# EAGLE library part MSP432P4111IPZ (library Microcontroller)
IC MCU 32BIT 512KB FLASH 100LQFP Manufacturer's datasheet <http://www.ti.com/lit/ds/symlink/msp432p4111t.pdf>
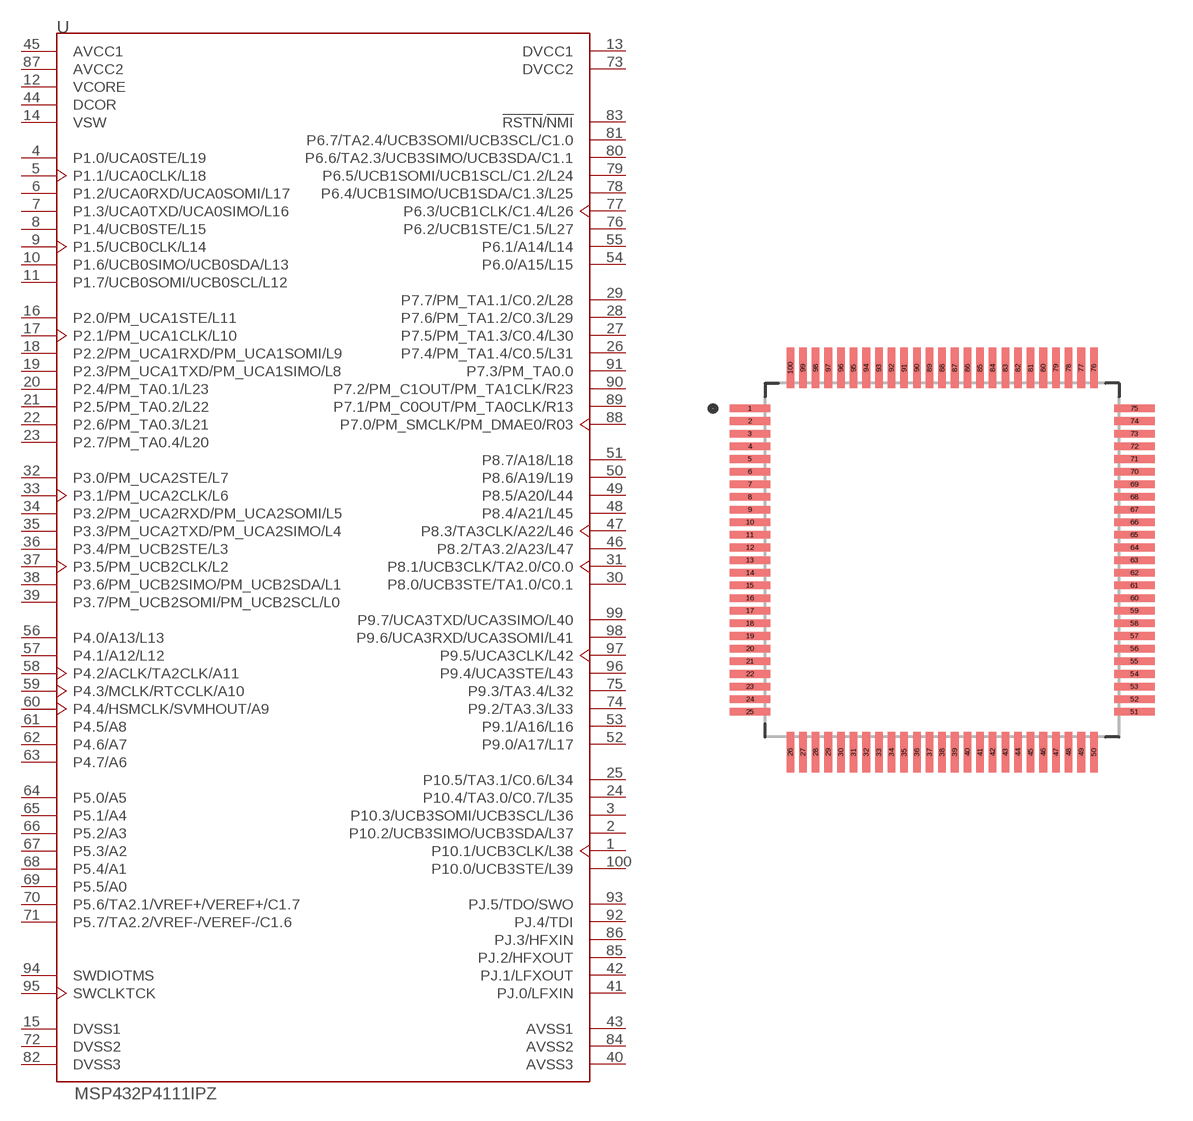
[diagram p10: symbol with the pads of LQFP100; footprint LQFP100]

Designator prefix U

## MSP432P4111IPZ (CREATED_BY: PCBLayout.com; DIGIKEY_PARTNO: 296-50599-ND; MANUFACTURER: Texas Instruments; MPN: MSP432P4111IPZ; PACKAGE: 100-LQFP)  [LQFP100]
1  P10.1/UCB3CLK/L38
2  P10.2/UCB3SIMO/UCB3SDA/L37
3  P10.3/UCB3SOMI/UCB3SCL/L36
4  P1.0/UCA0STE/L19
5  P1.1/UCA0CLK/L18
6  P1.2/UCA0RXD/UCA0SOMI/L17
7  P1.3/UCA0TXD/UCA0SIMO/L16
8  P1.4/UCB0STE/L15
9  P1.5/UCB0CLK/L14
10  P1.6/UCB0SIMO/UCB0SDA/L13
11  P1.7/UCB0SOMI/UCB0SCL/L12
12  VCORE  pwr
13  DVCC1  pwr
14  VSW  pwr
15  DVSS1  pwr
16  P2.0/PM_UCA1STE/L11
17  P2.1/PM_UCA1CLK/L10
18  P2.2/PM_UCA1RXD/PM_UCA1SOMI/L9
19  P2.3/PM_UCA1TXD/PM_UCA1SIMO/L8
20  P2.4/PM_TA0.1/L23
21  P2.5/PM_TA0.2/L22
22  P2.6/PM_TA0.3/L21
23  P2.7/PM_TA0.4/L20
24  P10.4/TA3.0/C0.7/L35  pwr
25  P10.5/TA3.1/C0.6/L34
26  P7.4/PM_TA1.4/C0.5/L31
27  P7.5/PM_TA1.3/C0.4/L30
28  P7.6/PM_TA1.2/C0.3/L29
29  P7.7/PM_TA1.1/C0.2/L28
30  P8.0/UCB3STE/TA1.0/C0.1
31  P8.1/UCB3CLK/TA2.0/C0.0
32  P3.0/PM_UCA2STE/L7
33  P3.1/PM_UCA2CLK/L6
34  P3.2/PM_UCA2RXD/PM_UCA2SOMI/L5
35  P3.3/PM_UCA2TXD/PM_UCA2SIMO/L4
36  P3.4/PM_UCB2STE/L3
37  P3.5/PM_UCB2CLK/L2
38  P3.6/PM_UCB2SIMO/PM_UCB2SDA/L1
39  P3.7/PM_UCB2SOMI/PM_UCB2SCL/L0
40  AVSS3  pwr
41  PJ.0/LFXIN
42  PJ.1/LFXOUT
43  AVSS1  pwr
44  DCOR  pwr
45  AVCC1  pwr
46  P8.2/TA3.2/A23/L47
47  P8.3/TA3CLK/A22/L46
48  P8.4/A21/L45
49  P8.5/A20/L44
50  P8.6/A19/L19
51  P8.7/A18/L18
52  P9.0/A17/L17
53  P9.1/A16/L16
54  P6.0/A15/L15
55  P6.1/A14/L14
56  P4.0/A13/L13
57  P4.1/A12/L12
58  P4.2/ACLK/TA2CLK/A11
59  P4.3/MCLK/RTCCLK/A10
60  P4.4/HSMCLK/SVMHOUT/A9
61  P4.5/A8
62  P4.6/A7
63  P4.7/A6
64  P5.0/A5
65  P5.1/A4
66  P5.2/A3
67  P5.3/A2
68  P5.4/A1
69  P5.5/A0
70  P5.6/TA2.1/VREF+/VEREF+/C1.7
71  P5.7/TA2.2/VREF-/VEREF-/C1.6
72  DVSS2  pwr
73  DVCC2  pwr
74  P9.2/TA3.3/L33
75  P9.3/TA3.4/L32
76  P6.2/UCB1STE/C1.5/L27
77  P6.3/UCB1CLK/C1.4/L26
78  P6.4/UCB1SIMO/UCB1SDA/C1.3/L25
79  P6.5/UCB1SOMI/UCB1SCL/C1.2/L24
80  P6.6/TA2.3/UCB3SIMO/UCB3SDA/C1.1
81  P6.7/TA2.4/UCB3SOMI/UCB3SCL/C1.0
82  DVSS3  pwr
83  !RSTN!/!NMI  in
84  AVSS2  pwr
85  PJ.2/HFXOUT
86  PJ.3/HFXIN
87  AVCC2  pwr
88  P7.0/PM_SMCLK/PM_DMAE0/R03
89  P7.1/PM_C0OUT/PM_TA0CLK/R13
90  P7.2/PM_C1OUT/PM_TA1CLK/R23
91  P7.3/PM_TA0.0
92  PJ.4/TDI
93  PJ.5/TDO/SWO
94  SWDIOTMS
95  SWCLKTCK
96  P9.4/UCA3STE/L43
97  P9.5/UCA3CLK/L42
98  P9.6/UCA3RXD/UCA3SOMI/L41
99  P9.7/UCA3TXD/UCA3SIMO/L40
100  P10.0/UCB3STE/L39

## Footprint LQFP100 (pad centres in mm)
smd 1.6 x 0.3: 1 -7.6,6; 2 -7.6,5.5; 3 -7.6,5; 4 -7.6,4.5; 5 -7.6,4; 6 -7.6,3.5; 7 -7.6,3; 8 -7.6,2.5; 9 -7.6,2; 10 -7.6,1.5; 11 -7.6,1; 12 -7.6,0.5; 13 -7.6,0; 14 -7.6,-0.5; 15 -7.6,-1; 16 -7.6,-1.5; 17 -7.6,-2; 18 -7.6,-2.5; 19 -7.6,-3; 20 -7.6,-3.5; 21 -7.6,-4; 22 -7.6,-4.5; 23 -7.6,-5; 24 -7.6,-5.5; 25 -7.6,-6; 51 7.6,-6; 52 7.6,-5.5; 53 7.6,-5; 54 7.6,-4.5; 55 7.6,-4; 56 7.6,-3.5; 57 7.6,-3; 58 7.6,-2.5; 59 7.6,-2; 60 7.6,-1.5; 61 7.6,-1; 62 7.6,-0.5; 63 7.6,0; 64 7.6,0.5; 65 7.6,1; 66 7.6,1.5; 67 7.6,2; 68 7.6,2.5; 69 7.6,3; 70 7.6,3.5; 71 7.6,4; 72 7.6,4.5; 73 7.6,5; 74 7.6,5.5; 75 7.6,6
smd 0.3 x 1.6: 26 -6,-7.6; 27 -5.5,-7.6; 28 -5,-7.6; 29 -4.5,-7.6; 30 -4,-7.6; 31 -3.5,-7.6; 32 -3,-7.6; 33 -2.5,-7.6; 34 -2,-7.6; 35 -1.5,-7.6; 36 -1,-7.6; 37 -0.5,-7.6; 38 0,-7.6; 39 0.5,-7.6; 40 1,-7.6; 41 1.5,-7.6; 42 2,-7.6; 43 2.5,-7.6; 44 3,-7.6; 45 3.5,-7.6; 46 4,-7.6; 47 4.5,-7.6; 48 5,-7.6; 49 5.5,-7.6; 50 6,-7.6; 76 6,7.6; 77 5.5,7.6; 78 5,7.6; 79 4.5,7.6; 80 4,7.6; 81 3.5,7.6; 82 3,7.6; 83 2.5,7.6; 84 2,7.6; 85 1.5,7.6; 86 1,7.6; 87 0.5,7.6; 88 0,7.6; 89 -0.5,7.6; 90 -1,7.6; 91 -1.5,7.6; 92 -2,7.6; 93 -2.5,7.6; 94 -3,7.6; 95 -3.5,7.6; 96 -4,7.6; 97 -4.5,7.6; 98 -5,7.6; 99 -5.5,7.6; 100 -6,7.6